# Altium footprint library L-5x5.PcbLib: 1 footprints
Each footprint in its own frame and in the unit in brackets; x right, y up, seen from the top. Pads: shape width x height; smd on the part's side, far side on the other; paste and mask are expansions set on the pad; w line width, h text height; cw(c..) or ccw(c..) is an arc to the next point about the centre after c.
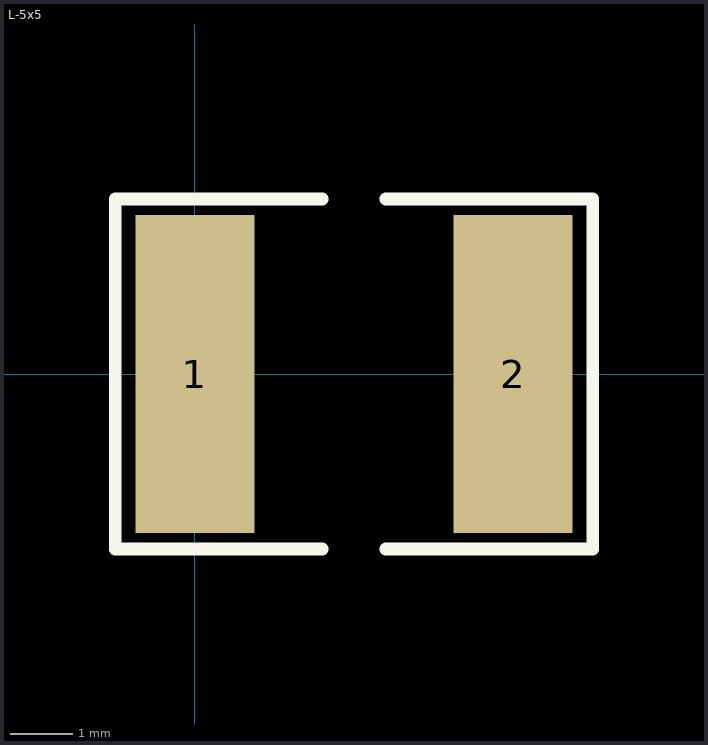
[diagram p0: the footprint, top view; thin cyan lines are the x and y axes]

## L-5x5 [mil]
height 200
pads (2):
  rect 75x200 smd: 1(0,0) 2(200,0)
Top Overlay:
  lines w7.87: 80,-110 -50,-110 -50,110 80,110 ; 120,-110 250,-110 250,110 120,110